# Altium schematic symbol library LM2576S-3.3_TR.Schlib: 1 symbol
Pins are listed as number, name and electrical type; pins without a type are passive.

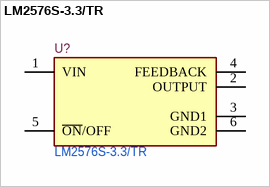
[diagram p0: symbol LM2576S-3.3/TR]

## LM2576S-3.3/TR
designator U?
Conv DC-DC Single Step Down 4V to 40V 6-Pin(5+Tab) TO-263 T/R; Manufacturer 1: Microchip; Manufacturer Part Number 1: LM2576-3.3WUTR; Supplier 1: Future Electronics; RoHS: Yes; Category: Uncategorized; ComponentLink1URL: https://datasheet.ciiva.com/2034/lm2576-2034887.pdf?src-supplier=Digi-Key; ComponentLink1Description: https://datasheet.ciiva.com/2034/lm2576-2034887.pdf?src-supplier=Digi-Key; ComponentLink2URL: https://datasheet.ciiva.com/16374/lm2576-16374282.pdf?src-supplier=Future+Electronics; ComponentLink2Description: https://datasheet.ciiva.com/16374/lm2576-16374282.pdf?src-supplier=Future+Electronics; Supplier Part Number 1: LM2576-3.3WU TR; LCSC: C194473; ComponentLink3Description: LCSC - HGSEMI LM2576S-3.3/TR; ComponentLink3URL: https://lcsc.com/product-detail/Others_HGSEMI-LM2576S-3-3-TR_C194473.html
footprint TO-263-5
pins: 1 VIN, 2 OUTPUT, 3 GND1, 4 FEEDBACK, 5 ~{ON}/OFF, 6 GND2